# Altium footprint library Capacitors_TH.PcbLib: 79 footprints (part 5 of 5)
Each footprint in its own frame and in the unit in brackets; x right, y up, seen from the top. Pads: shape width x height; smd on the part's side, far side on the other; paste and mask are expansions set on the pad; w line width, h text height; cw(c..) or ccw(c..) is an arc to the next point about the centre after c.
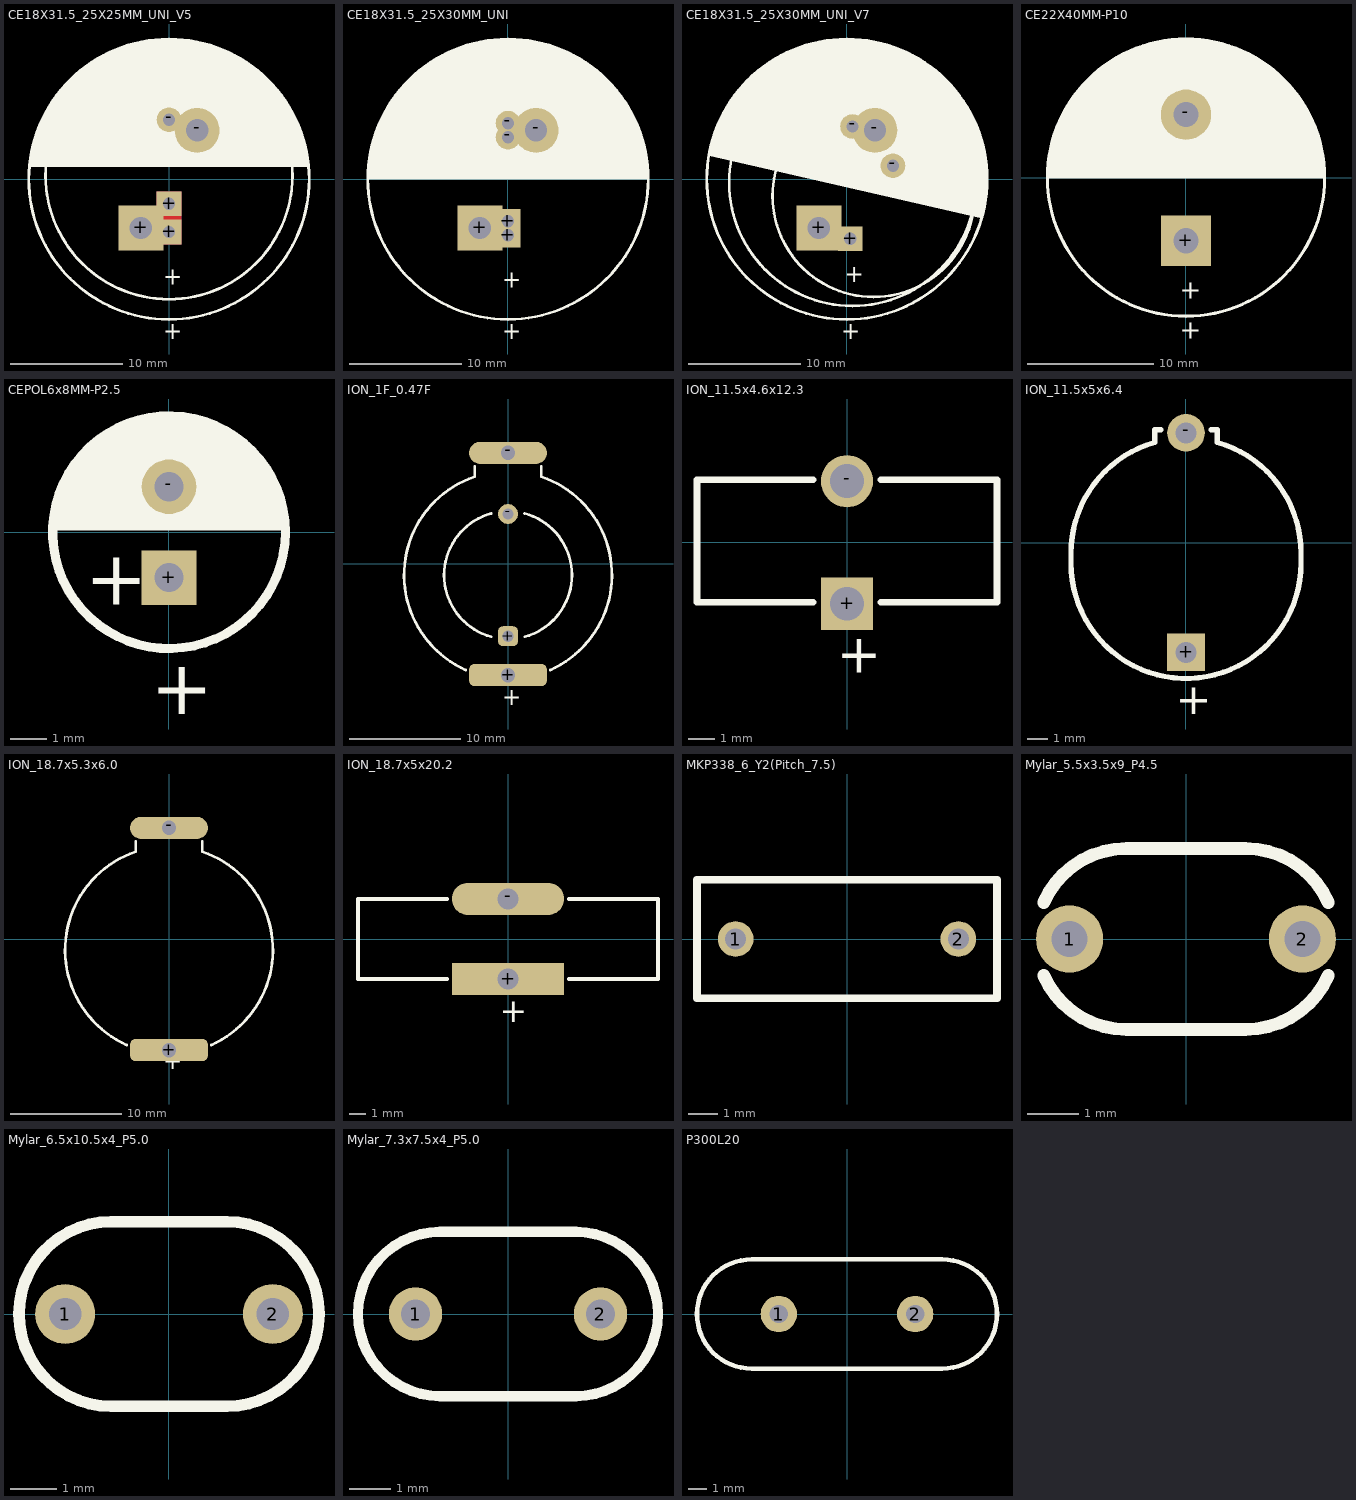
[diagram p4: the footprints below, top view; thin cyan lines are the x and y axes]

## CE18Х31.5_25X25MM_UNI_V5 [mm]
height 31.5
pads (5):
  rect 4x4 hole 2: +(-2.5,-4.35)
  rect 2.2x2.2 hole 1.1: +(0,-4.7) +(0,-2.2)
  round 2.2 hole 1.1: -(0,5.3)
  round 4 hole 2: -(2.5,4.35)
Top Layer:
  rectangle: -1.1,-5.8 1.1,-1.1
Bottom Layer:
  rectangle: -1.1,-5.8 1.1,-1.1
Top Overlay:
  circle w0.25: c0,0.3 r11
  circle w0.25: c0,0 r12.5
  region: -12.413,1.1 12.456,1.1 12.417,1.562 12.271,2.476 12.057,3.377 11.776,4.26 11.431,5.119 11.022,5.951 10.552,6.749 10.025,7.511 9.442,8.23 8.807,8.905 8.124,9.53 7.396,10.103 6.627,10.62 5.822,11.078 4.985,11.475 4.121,11.808 3.234,12.076 2.33,12.278 1.413,12.411 0.489,12.476 0.026,12.474 -0.438,12.48 -1.365,12.423 -2.285,12.296 -3.193,12.099 -4.083,11.835 -4.951,11.505 -5.792,11.11 -6.6,10.653 -7.372,10.137 -8.103,9.563 -8.788,8.937 -9.425,8.26 -10.008,7.538 -10.535,6.773 -11.004,5.971 -11.41,5.136 -11.753,4.273 -12.029,3.386 -12.238,2.481 -12.378,1.563
  text "+" at -0.5,-9.4 h1.5
  text "+" at -0.5,-14.247 h1.5
3D body: height 35, standoff 0, extent -9,-7.45 9,10.549
3D body: height 31.5, standoff 0, extent -11,-10.7 11,11.3
3D body: height 25, standoff 0, extent -12.5,-12.497 12.5,12.497

## CE18Х31.5_25X30MM_UNI [mm]
height 31.5
pads (6):
  rect 4x4 hole 2: +(-2.5,-4.35)
  rect 2.2x2.2 hole 1.1: +(0,-5) +(0,-3.75)
  round 2.2 hole 1.1: -(0,3.75) -(0,5)
  round 4 hole 2: -(2.5,4.35)
Top Overlay:
  circle w0.25: c0,0 r12.5
  region: -12.448,0 12.5,0 12.502,0.491 12.429,1.469 12.279,2.439 12.053,3.394 11.753,4.329 11.379,5.236 10.935,6.111 10.423,6.949 9.847,7.743 9.21,8.49 8.516,9.184 7.77,9.821 6.975,10.397 6.138,10.909 5.262,11.353 4.355,11.726 3.421,12.027 2.466,12.253 1.496,12.403 0.517,12.476 0.026,12.474 -0.466,12.481 -1.447,12.415 -2.421,12.272 -3.379,12.051 -4.318,11.755 -5.229,11.384 -6.108,10.942 -6.949,10.432 -7.747,9.855 -8.496,9.218 -9.191,8.522 -9.829,7.773 -10.405,6.975 -10.916,6.134 -11.358,5.255 -11.728,4.344 -12.025,3.406 -12.246,2.447 -12.389,1.474 -12.454,0.492
  text "+" at -0.5,-9.7 h1.5
  text "+" at -0.5,-14.25 h1.5
3D body: height 31.5, standoff 0, extent -11,-11 11,11
3D body: height 30, standoff 0, extent -12.5,-12.5 12.5,12.5

## CE18Х31.5_25X30MM_UNI_V7 [mm]
height 35
pads (5):
  rect 4x4 hole 2: +(-2.5,-4.35)
  rect 2.2x2.2 hole 1.1: +(0.3,-5.3)
  round 2.2 hole 1.1: -(0.5,4.7) -(4.1,1.2)
  round 4 hole 2: -(2.5,4.35)
Top Overlay:
  circle w0.25: c0,0 r12.5
  circle w0.25: c0.5,-0.3 r11
  circle w0.25: c2.374,-1.5 r9
  region: -12.269,2.078 12,-3.5 12.143,-3.012 12.348,-2.016 12.471,-1.006 12.511,0.01 12.469,1.027 12.344,2.036 12.137,3.032 11.85,4.008 11.485,4.957 11.043,5.873 10.528,6.75 9.944,7.583 9.293,8.365 8.582,9.091 7.813,9.757 6.993,10.359 6.126,10.891 5.219,11.352 4.278,11.736 3.308,12.043 2.317,12.27 1.31,12.416 0.295,12.479 -0.722,12.459 -1.734,12.357 -2.734,12.172 -3.716,11.907 -4.673,11.563 -5.599,11.141 -6.487,10.646 -7.333,10.081 -8.129,9.448 -8.5,9.1 -8.87,8.753 -9.552,8.002 -10.17,7.197 -10.721,6.345 -11.201,5.451 -11.606,4.521 -11.935,3.561 -12.185,2.578
  text "+" at -0.5,-14.247 h1.5
  text "+" at -0.2,-9.2 h1.5
3D body: height 25, standoff 0, extent -12.5,-12.496 12.5,12.497
3D body: height 31.5, standoff 0, extent -10.5,-11.3 11.5,10.7
3D body: height 35, standoff 0, extent -6.825,-10.95 11.175,7.05

## CE22X40MM-P10 [mm] "Radial aluminium capacitor"
height 40
pads (2):
  rect 4x4 hole 2: +(0,-5)
  round 4 hole 2: -(0,5)
Top Overlay:
  circle w0.25: c0,0 r11
  region: -11,-0.052 11,-0.052 11,0.428 10.916,1.385 10.75,2.331 10.501,3.259 10.172,4.161 9.766,5.032 9.286,5.864 8.735,6.651 8.118,7.386 7.439,8.066 6.703,8.683 5.916,9.234 5.084,9.714 4.214,10.12 3.311,10.449 2.383,10.697 1.437,10.864 0.48,10.948 -0.48,10.948 -1.437,10.864 -2.383,10.697 -3.311,10.449 -4.213,10.12 -5.084,9.714 -5.916,9.234 -6.703,8.683 -7.438,8.066 -8.118,7.386 -8.735,6.651 -9.286,5.864 -9.766,5.032 -10.172,4.161 -10.501,3.259 -10.749,2.331 -10.916,1.385 -11,0.428
  text "+" at -0.5,-9.6 h1.5
  text "+" at -0.5,-12.802 h1.5
3D body "22x40 capacitor.STEP": height 40.2, standoff -5.8, extent -11,-11.052 11,10.938

## CEPOL6x8MM-P2.5 [mm] "Radial polymer aluminium capacitor"
height 8
pads (2):
  rect 1.5x1.5 hole 0.8: +(0,-1.25)
  round 1.5 hole 0.8: -(0,1.25)
Top Overlay:
  circle w0.25: c0,0 r3.2
  region: -3.2,0.05 -3.2,0.302 -3.121,0.799 -2.966,1.278 -2.737,1.727 -2.441,2.135 -2.085,2.491 -1.677,2.787 -1.228,3.016 -0.749,3.171 -0.252,3.25 0.252,3.25 0.749,3.171 1.228,3.016 1.677,2.787 2.085,2.491 2.441,2.135 2.737,1.727 2.966,1.278 3.121,0.799 3.2,0.302 3.2,0.05
  text "+" at -0.5,-5 h1.5
  text "+" at -2.3,-2 h1.5
3D body "Aluminum_electrolytic_capacitor_radial_D6.3_H11_PinD0.5_Pitch2.5_nominal_blue.step": height 11, standoff -3, extent -3.147,-3.144 3.147,3.144

## ION_1F_0.47F [mm]
pads (5):
  rrect50% 7x2 / inner round 2 / far side rect 2x2 hole 1.3: +(0,-10)
  rrect50% 1.8x1.8 hole 1: +(0,-6.5)
  round 1.8 hole 1: -(0,4.5)
  oval 7x2 / inner round 2 / far side round 2 all layers, no hole: -(0,10)
  round 2 hole 1.3: -(0,10)
Top Overlay:
  lines w0.25: -3.8,-9.543 cw(c0,-1) -3,7.856 -3,8.8 ; -1.513,-6.547 cw(c0,-1) -1.513,4.547 ; 1.488,4.554 cw(c0,-1) 1.513,-6.547 ; 3,8.8 3,7.856 cw(c0,-1) 3.8,-9.543
  text "+" at -0.5,-12.7 h1.5
3D body: height 0.8, standoff 0, extent -3,-10.1 3,-9.9
3D body: height 6, standoff 5.8, extent -3,-2.5 3,10.1
3D body: height 5.8, standoff 0.8, extent -9.35,-10.35 9.35,8.35
3D body: height 6, standoff 0, extent -3,9.9 3,10.1
3D body: height 2, standoff -2.5, extent -0.5,9.9 0.5,10.1
3D body: height 0.8, standoff -2.5, extent -0.5,-10.1 0.5,-9.9
3D body: height 1, standoff -2.5, extent -0.4,-6.6 0.4,-6.4
3D body: height 5.5, standoff -2.5, extent -0.4,4.4 0.4,4.6

## ION_11.5x4.6x12.3 [mm]
pads (2):
  rect 2x2 hole 1.3: +(0,-2.35)
  round 2 hole 1.3: -(0,2.35)
Top Overlay:
  lines w0.25: -1.3,-2.3 -5.75,-2.3 -5.75,2.4 -1.3,2.4 ; 1.3,-2.3 5.75,-2.3 5.75,2.4 1.3,2.4
  text "+" at -0.4,-5 h1.5
3D body: height 6.55, standoff 0, extent -1.5,-2.5 1.5,-2.3
3D body: height 6.55, standoff 0, extent -1.5,2.3 1.5,2.5
3D body: height 12.3, standoff 0.8, extent -5.75,-2.3 5.75,2.3
3D body: height 5.5, standoff -2.5, extent -0.5,2.25 0.5,2.45
3D body: height 5.5, standoff -2.5, extent -0.5,-2.45 0.5,-2.25

## ION_11.5x5x6.4 [mm]
pads (2):
  rect 1.8x1.8 hole 1: +(0,-5.25)
  round 1.8 hole 1: -(0,5.25)
Top Overlay:
  lines w0.25: -1.2,5.4 -1.5,5.4 -1.5,4.792 ccw(c0,-0.5) -5.5,-0.5 -5.5,-1 ccw(c0,-1) 5.5,-1 5.5,-0.5 ccw(c0,-0.5) 1.5,4.792 1.5,5.4 1.2,5.4
  text "+" at -0.5,-8.2 h1.5
3D body: height 5.5, standoff -2.5, extent -0.4,5.15 0.4,5.35
3D body: height 1, standoff -2.5, extent -0.4,-5.35 0.4,-5.15
3D body: height 6.2, standoff 1.2, extent -5.5,-6.25 5.5,4.75
3D body: height 6.4, standoff 0, extent -1.5,5.15 1.5,5.35
3D body: height 6.4, standoff 6.2, extent -1.5,-1.8 1.5,5.35

## ION_18.7x5.3x6.0 [mm]
pads (3):
  rrect50% 7x2 / inner round 2 / far side rect 2x2 hole 1.3: +(0,-10)
  oval 7x2 / inner round 2 / far side round 2 all layers, no hole: -(0,10)
  round 2 hole 1.3: -(0,10)
Top Overlay:
  lines w0.25: -3.8,-9.543 cw(c0,-1) -3,7.856 -3,8.8 ; 3,8.8 3,7.856 cw(c0,-1) 3.8,-9.543
  text "+" at -0.5,-11.7 h1.5
3D body: height 0.8, standoff 0, extent -3,-10.1 3,-9.9
3D body: height 6, standoff 5.8, extent -3,-2.5 3,10.1
3D body: height 5.8, standoff 0.8, extent -9.35,-10.35 9.35,8.35
3D body: height 6, standoff 0, extent -3,9.9 3,10.1
3D body: height 2, standoff -2.5, extent -0.5,9.9 0.5,10.1
3D body: height 0.8, standoff -2.5, extent -0.5,-10.1 0.5,-9.9

## ION_18.7x5x20.2 [mm]
pads (3):
  rect 7x2 / inner rect 2x2 / far side rect 2x2 hole 1.3: +(0,-2.5)
  oval 7x2 / inner round 2 / far side round 2 all layers, no hole: -(0,2.5)
  round 2 hole 1.3: -(0,2.5)
Top Overlay:
  lines w0.25: -3.8,-2.5 -9.35,-2.5 -9.35,2.5 -3.8,2.5 ; 3.8,-2.5 9.35,-2.5 9.35,2.5 3.8,2.5
  text "+" at -0.5,-5.2 h1.5
3D body: height 20.2, standoff 1.5, extent -9.35,-2.5 9.35,2.5
3D body: height 5.5, standoff -2.5, extent -0.5,2.4 0.5,2.6
3D body: height 5.5, standoff -2.5, extent -0.5,-2.6 0.5,-2.4
3D body: height 10, standoff 0, extent -3,2.5 3,2.7
3D body: height 10, standoff 0, extent -3,-2.7 3,-2.5

## MKP338_6_Y2(Pitch_7.5) [mm] "MKP338 6 Y2 Film Capacitor"
height 9
pads (2):
  round 1.2 hole 0.7: 1(-3.75,0) 2(3.75,0)
Top Overlay:
  lines w0.254: -5.05,-2 -5.05,2 5.05,2 5.05,-2 -5.05,-2
3D body "MKP338_6_Y2_4x10x9_Pitch_7.5.STEP": height 9.1, standoff -3.4, extent -4.95,-2 5.05,2

## Mylar_5.5x3.5x9_P4.5 [mm] "Mylar film capacitor, Pitch=4.5mm"
height 10
pads (2):
  round 1.3 hole 0.7: 1(-2.25,0) 2(2.25,0)
Top Overlay:
  lines w0.25: -2.75,-0.709 ccw(c-1.15,0) -1.15,-1.75 1.15,-1.75 ccw(c1.15,0) 2.75,-0.709 ; -2.75,0.709 cw(c-1.15,0) -1.15,1.75 1.15,1.75 cw(c1.15,0) 2.75,0.709
3D body: height 10, standoff 1, extent -0.625,-1.75 2.875,1.75
3D body: height 2, standoff -3, extent -2.498,-0.249 -2,0.25
3D body: height 2, standoff -3, extent 2.002,-0.249 2.5,0.25
3D body: height 10, standoff 1, extent -2.875,-1.75 0.625,1.75
3D body: height 10, standoff 1, extent -1.125,-1.75 1.125,1.75

## Mylar_6.5x10.5x4_P5.0 [mm] "Mylar film capacitor, Pitch=5mm"
height 10.5
pads (2):
  round 1.3 hole 0.7: 1(-2.25,0) 2(2.25,0)
Top Overlay:
  lines w0.25: -3.25,0 cw(c-1.25,0) -1.25,2 1.25,2 cw(c1.25,0) 3.25,0 cw(c1.25,0) 1.25,-2 -1.25,-2 cw(c-1.25,0) -3.25,0
3D body: height 10.5, standoff 1, extent -1.65,-2 1.65,2
3D body: height 10.5, standoff 1, extent -3.25,-2 0.75,2
3D body: height 2, standoff -3, extent 2.002,-0.249 2.5,0.25
3D body: height 2, standoff -3, extent -2.498,-0.249 -2,0.25
3D body: height 10.5, standoff 1, extent -0.75,-2 3.25,2

## Mylar_7.3x7.5x4_P5.0 [mm] "Mylar film capacitor, Pitch=5mm"
height 7.5
pads (2):
  round 1.3 hole 0.7: 1(-2.25,0) 2(2.25,0)
Top Overlay:
  lines w0.25: -3.65,0 ccw(c-1.65,0) -1.65,-2 1.65,-2 ccw(c1.65,0) 3.65,0 ccw(c1.65,0) 1.65,2 -1.65,2 ccw(c-1.65,0) -3.65,0
3D body: height 7.5, standoff 1, extent -1.65,-2 1.65,2
3D body: height 7.5, standoff 1, extent -3.65,-2 0.35,2
3D body: height 2, standoff -3, extent 2.002,-0.249 2.5,0.25
3D body: height 2, standoff -3, extent -2.498,-0.249 -2,0.25
3D body: height 7.5, standoff 1, extent -0.35,-2 3.65,2

## P300L20 [mm]
pads (2):
  round 2 hole 1: 1(-3.75,0) 2(3.75,0)
Top Overlay:
  lines w0.25: -5.25,-3 cw(c-5.25,0) -5.25,3 5.25,3 cw(c5.25,0) 5.25,-3 -5.25,-3
3D body "P300L20.STEP": height 21.33, standoff -4.02, extent -7.95,-2.805 8.05,2.799